# EAGLE library part DM3AT-SF-PEJ (library hirose)
micro SD Card (Standard Type) Source: http://www.hirose.co.jp/catalogj_hp/j60900232.pdf
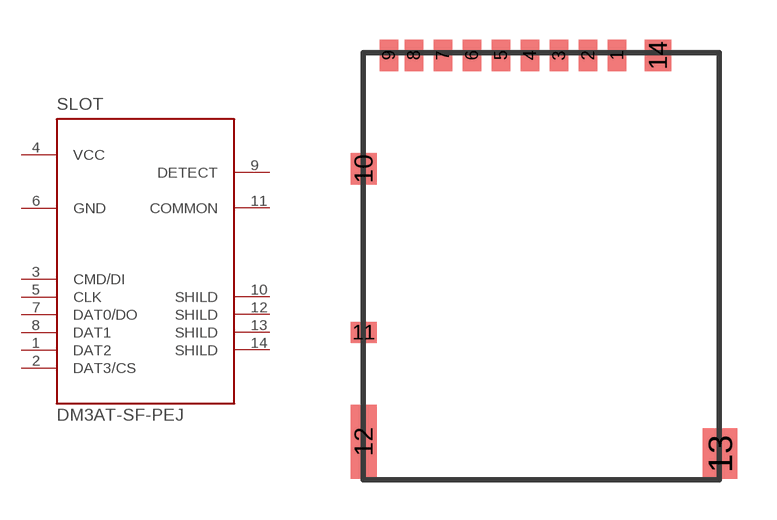
[diagram p2: symbol with the pads of DM3AT-SF-PEJ; footprint DM3AT-SF-PEJ]

Designator prefix SLOT

## DM3AT-SF-PEJ  [DM3AT-SF-PEJ]
1  DAT2
2  DAT3/CS
3  CMD/DI  in
4  VCC  pwr
5  CLK  in
6  GND  pwr
7  DAT0/DO
8  DAT1
9  DETECT  pas
10  SHILD  pas
11  COMMON  pas
12  SHILD  pas
13  SHILD  pas
14  SHILD  pas

## Footprint DM3AT-SF-PEJ (pad centres in mm)
micro SD Card (Standard Type) Source: http://www.hirose.co.jp/catalogj_hp/j60900232.pdf
smd 0.7 x 1.2: 1 0,0.6; 2 -1.1,0.6; 3 -2.2,0.6; 4 -3.3,0.6; 5 -4.4,0.6; 6 -5.5,0.6; 7 -6.6,0.6; 8 -7.7,0.6; 9 -8.65,0.6
smd 1 x 1.2: 10 -9.6,-3.7; 14 1.55,0.6
smd 1 x 0.8: 11 -9.6,-9.9
smd 1 x 2.8: 12 -9.6,-14.05
smd 1.3 x 1.9: 13 3.9,-14.5